# EAGLE library part XCV800_BG432 (library xilinx-xcv)
xcv800_bg432 edit this description Auto generated by make-symbol-device-package-bsdl.ulp Rev. 26 Source: xcv800_bg432.bsd
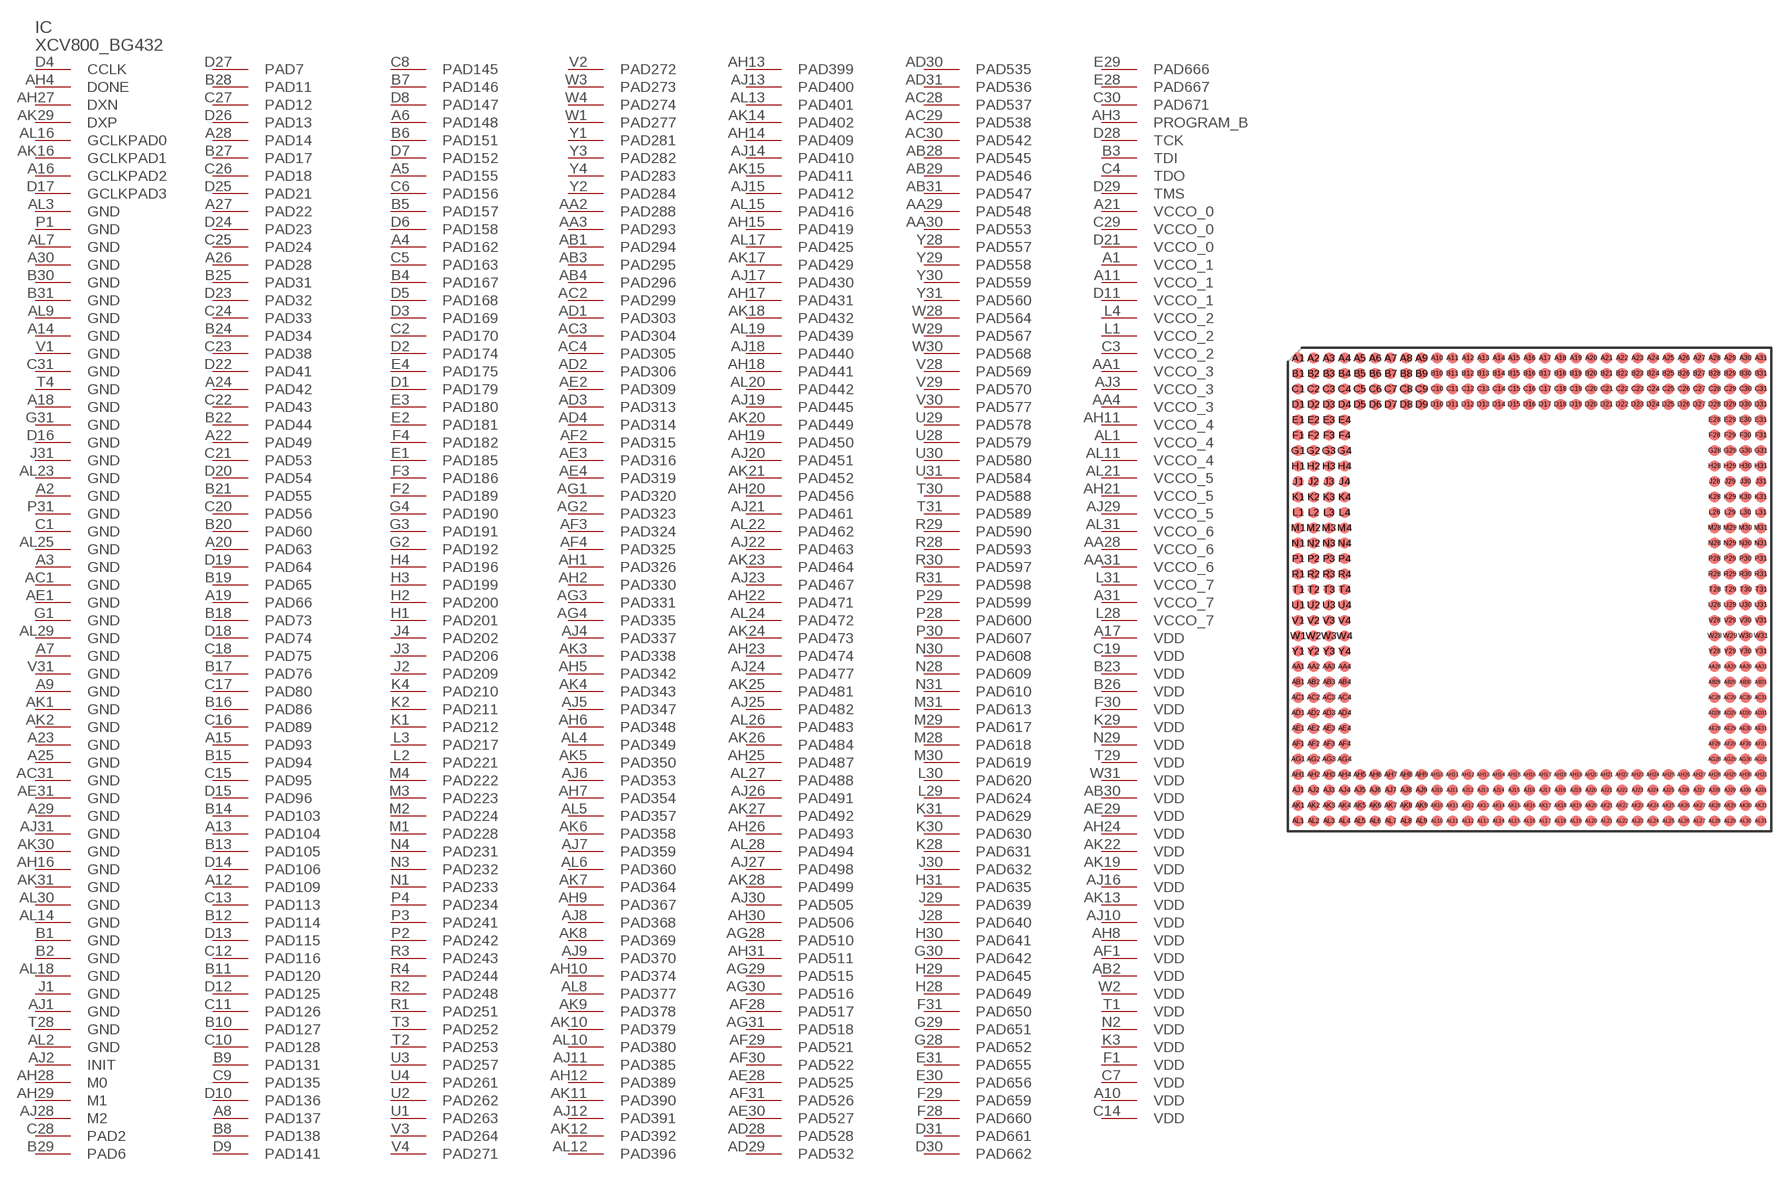
[diagram p127: symbol with the pads of BG432; footprint BG432]

Designator prefix IC

## XCV800_BG432 (OC_FARNELL: unknown; OC_NEWARK: unknown)  [BG432]
A1  VCCO_1  pwr
A2  GND  pwr
A3  GND  pwr
A4  PAD162
A5  PAD155
A6  PAD148
A7  GND  pwr
A8  PAD137
A9  GND  pwr
A10  VDD  pwr
A11  VCCO_1  pwr
A12  PAD109
A13  PAD104
A14  GND  pwr
A15  PAD93
A16  GCLKPAD2  in
A17  VDD  pwr
A18  GND  pwr
A19  PAD66
A20  PAD63
A21  VCCO_0  pwr
A22  PAD49
A23  GND  pwr
A24  PAD42
A25  GND  pwr
A26  PAD28
A27  PAD22
A28  PAD14
A29  GND  pwr
A30  GND  pwr
A31  VCCO_7  pwr
AA1  VCCO_3  pwr
AA2  PAD288
AA3  PAD293
AA4  VCCO_3  pwr
AA28  VCCO_6  pwr
AA29  PAD548
AA30  PAD553
AA31  VCCO_6  pwr
AB1  PAD294
AB2  VDD  pwr
AB3  PAD295
AB4  PAD296
AB28  PAD545
AB29  PAD546
AB30  VDD  pwr
AB31  PAD547
AC1  GND  pwr
AC2  PAD299
AC3  PAD304
AC4  PAD305
AC28  PAD537
AC29  PAD538
AC30  PAD542
AC31  GND  pwr
AD1  PAD303
AD2  PAD306
AD3  PAD313
AD4  PAD314
AD28  PAD528
AD29  PAD532
AD30  PAD535
AD31  PAD536
AE1  GND  pwr
AE2  PAD309
AE3  PAD316
AE4  PAD319
AE28  PAD525
AE29  VDD  pwr
AE30  PAD527
AE31  GND  pwr
AF1  VDD  pwr
AF2  PAD315
AF3  PAD324
AF4  PAD325
AF28  PAD517
AF29  PAD521
AF30  PAD522
AF31  PAD526
AG1  PAD320
AG2  PAD323
AG3  PAD331
AG4  PAD335
AG28  PAD510
AG29  PAD515
AG30  PAD516
AG31  PAD518
AH1  PAD326
AH2  PAD330
AH3  PROGRAM_B  in
AH4  DONE
AH5  PAD342
AH6  PAD348
AH7  PAD354
AH8  VDD  pwr
AH9  PAD367
AH10  PAD374
AH11  VCCO_4  pwr
AH12  PAD389
AH13  PAD399
AH14  PAD409
AH15  PAD419
AH16  GND  pwr
AH17  PAD431
AH18  PAD441
AH19  PAD450
AH20  PAD456
AH21  VCCO_5  pwr
AH22  PAD471
AH23  PAD474
AH24  VDD  pwr
AH25  PAD487
AH26  PAD493
AH27  DXN  pas
AH28  M0  in
AH29  M1  in
AH30  PAD506
AH31  PAD511
AJ1  GND  pwr
AJ2  INIT
AJ3  VCCO_3  pwr
AJ4  PAD337
AJ5  PAD347
AJ6  PAD353
AJ7  PAD359
AJ8  PAD368
AJ9  PAD370
AJ10  VDD  pwr
AJ11  PAD385
AJ12  PAD391
AJ13  PAD400
AJ14  PAD410
AJ15  PAD412
AJ16  VDD  pwr
AJ17  PAD430
AJ18  PAD440
AJ19  PAD445
AJ20  PAD451
AJ21  PAD461
AJ22  PAD463
AJ23  PAD467
AJ24  PAD477
AJ25  PAD482
AJ26  PAD491
AJ27  PAD498
AJ28  M2  in
AJ29  VCCO_5  pwr
AJ30  PAD505
AJ31  GND  pwr
AK1  GND  pwr
AK2  GND  pwr
AK3  PAD338
AK4  PAD343
AK5  PAD350
AK6  PAD358
AK7  PAD364
AK8  PAD369
AK9  PAD378
AK10  PAD379
AK11  PAD390
AK12  PAD392
AK13  VDD  pwr
AK14  PAD402
AK15  PAD411
AK16  GCLKPAD1  in
AK17  PAD429
AK18  PAD432
AK19  VDD  pwr
AK20  PAD449
AK21  PAD452
AK22  VDD  pwr
AK23  PAD464
AK24  PAD473
AK25  PAD481
AK26  PAD484
AK27  PAD492
AK28  PAD499
AK29  DXP  pas
AK30  GND  pwr
AK31  GND  pwr
AL1  VCCO_4  pwr
AL2  GND  pwr
AL3  GND  pwr
AL4  PAD349
AL5  PAD357
AL6  PAD360
AL7  GND  pwr
AL8  PAD377
AL9  GND  pwr
AL10  PAD380
AL11  VCCO_4  pwr
AL12  PAD396
AL13  PAD401
AL14  GND  pwr
AL15  PAD416
AL16  GCLKPAD0  in
AL17  PAD425
AL18  GND  pwr
AL19  PAD439
AL20  PAD442
AL21  VCCO_5  pwr
AL22  PAD462
AL23  GND  pwr
AL24  PAD472
AL25  GND  pwr
AL26  PAD483
AL27  PAD488
AL28  PAD494
AL29  GND  pwr
AL30  GND  pwr
AL31  VCCO_6  pwr
B1  GND  pwr
B2  GND  pwr
B3  TDI  in
B4  PAD167
B5  PAD157
B6  PAD151
B7  PAD146
B8  PAD138
B9  PAD131
B10  PAD127
B11  PAD120
B12  PAD114
B13  PAD105
B14  PAD103
B15  PAD94
B16  PAD86
B17  PAD76
B18  PAD73
B19  PAD65
B20  PAD60
B21  PAD55
B22  PAD44
B23  VDD  pwr
B24  PAD34
B25  PAD31
B26  VDD  pwr
B27  PAD17
B28  PAD11
B29  PAD6
B30  GND  pwr
B31  GND  pwr
C1  GND  pwr
C2  PAD170
C3  VCCO_2  pwr
C4  TDO  out
C5  PAD163
C6  PAD156
C7  VDD  pwr
C8  PAD145
C9  PAD135
C10  PAD128
C11  PAD126
C12  PAD116
C13  PAD113
C14  VDD  pwr
C15  PAD95
C16  PAD89
C17  PAD80
C18  PAD75
C19  VDD  pwr
C20  PAD56
C21  PAD53
C22  PAD43
C23  PAD38
C24  PAD33
C25  PAD24
C26  PAD18
C27  PAD12
C28  PAD2
C29  VCCO_0  pwr
C30  PAD671
C31  GND  pwr
D1  PAD179
D2  PAD174
D3  PAD169
D4  CCLK
D5  PAD168
D6  PAD158
D7  PAD152
D8  PAD147
D9  PAD141
D10  PAD136
D11  VCCO_1  pwr
D12  PAD125
D13  PAD115
D14  PAD106
D15  PAD96
D16  GND  pwr
D17  GCLKPAD3  in
D18  PAD74
D19  PAD64
D20  PAD54
D21  VCCO_0  pwr
D22  PAD41
D23  PAD32
D24  PAD23
D25  PAD21
D26  PAD13
D27  PAD7
D28  TCK  in
D29  TMS  in
D30  PAD662
D31  PAD661
E1  PAD185
E2  PAD181
E3  PAD180
E4  PAD175
E28  PAD667
E29  PAD666
E30  PAD656
E31  PAD655
F1  VDD  pwr
F2  PAD189
F3  PAD186
F4  PAD182
F28  PAD660
F29  PAD659
F30  VDD  pwr
F31  PAD650
G1  GND  pwr
G2  PAD192
G3  PAD191
G4  PAD190
G28  PAD652
G29  PAD651
G30  PAD642
G31  GND  pwr
H1  PAD201
H2  PAD200
H3  PAD199
H4  PAD196
H28  PAD649
H29  PAD645
H30  PAD641
H31  PAD635
J1  GND  pwr
J2  PAD209
J3  PAD206
J4  PAD202
J28  PAD640
J29  PAD639
J30  PAD632
J31  GND  pwr
K1  PAD212
K2  PAD211
K3  VDD  pwr
K4  PAD210
K28  PAD631
K29  VDD  pwr
K30  PAD630
K31  PAD629
L1  VCCO_2  pwr
L2  PAD221
L3  PAD217
L4  VCCO_2  pwr
L28  VCCO_7  pwr
L29  PAD624
L30  PAD620
L31  VCCO_7  pwr
M1  PAD228
M2  PAD224
M3  PAD223
M4  PAD222
M28  PAD618
M29  PAD617
M30  PAD619
M31  PAD613
N1  PAD233
N2  VDD  pwr
N3  PAD232
N4  PAD231
N28  PAD609
N29  VDD  pwr
N30  PAD608
N31  PAD610
P1  GND  pwr
P2  PAD242
P3  PAD241
P4  PAD234
P28  PAD600
P29  PAD599
P30  PAD607
P31  GND  pwr
R1  PAD251
R2  PAD248
R3  PAD243
R4  PAD244
R28  PAD593
R29  PAD590
R30  PAD597
R31  PAD598
T1  VDD  pwr
T2  PAD253
T3  PAD252
T4  GND  pwr
T28  GND  pwr
T29  VDD  pwr
T30  PAD588
T31  PAD589
U1  PAD263
U2  PAD262
U3  PAD257
U4  PAD261
U28  PAD579
U29  PAD578
U30  PAD580
U31  PAD584
V1  GND  pwr
V2  PAD272
V3  PAD264
V4  PAD271
V28  PAD569
V29  PAD570
V30  PAD577
V31  GND  pwr
W1  PAD277
W2  VDD  pwr
W3  PAD273
W4  PAD274
W28  PAD564
W29  PAD567
W30  PAD568
W31  VDD  pwr
Y1  PAD281
Y2  PAD284
Y3  PAD282
Y4  PAD283
Y28  PAD557
Y29  PAD558
Y30  PAD559
Y31  PAD560

## Footprint BG432 (pad centres in mm)
xcv300_bg432 edit this description Auto generated by make-symbol-device-package-bsdl.ulp Rev. 26 Source: xcv300_bg432.bsd
smd 0.9 x 0.9: A1 -19.05,19.05; A2 -17.78,19.05; A3 -16.51,19.05; A4 -15.24,19.05; A5 -13.97,19.05; A6 -12.7,19.05; A7 -11.43,19.05; A8 -10.16,19.05; A9 -8.89,19.05; A10 -7.62,19.05; A11 -6.35,19.05; A12 -5.08,19.05; A13 -3.81,19.05; A14 -2.54,19.05; A15 -1.27,19.05; A16 0,19.05; A17 1.27,19.05; A18 2.54,19.05; A19 3.81,19.05; A20 5.08,19.05; A21 6.35,19.05; A22 7.62,19.05; A23 8.89,19.05; A24 10.16,19.05; A25 11.43,19.05; A26 12.7,19.05; A27 13.97,19.05; A28 15.24,19.05; A29 16.51,19.05; A30 17.78,19.05; A31 19.05,19.05; AA1 -19.05,-6.35; AA2 -17.78,-6.35; AA3 -16.51,-6.35; AA4 -15.24,-6.35; AA28 15.24,-6.35; AA29 16.51,-6.35; AA30 17.78,-6.35; AA31 19.05,-6.35; AB1 -19.05,-7.62; AB2 -17.78,-7.62; AB3 -16.51,-7.62; AB4 -15.24,-7.62; AB28 15.24,-7.62; AB29 16.51,-7.62; AB30 17.78,-7.62; AB31 19.05,-7.62; AC1 -19.05,-8.89; AC2 -17.78,-8.89; AC3 -16.51,-8.89; AC4 -15.24,-8.89; AC28 15.24,-8.89; AC29 16.51,-8.89; AC30 17.78,-8.89; AC31 19.05,-8.89; AD1 -19.05,-10.16; AD2 -17.78,-10.16; AD3 -16.51,-10.16; AD4 -15.24,-10.16; AD28 15.24,-10.16; AD29 16.51,-10.16; AD30 17.78,-10.16; AD31 19.05,-10.16; AE1 -19.05,-11.43; AE2 -17.78,-11.43; AE3 -16.51,-11.43; AE4 -15.24,-11.43; AE28 15.24,-11.43; AE29 16.51,-11.43; AE30 17.78,-11.43; AE31 19.05,-11.43; AF1 -19.05,-12.7; AF2 -17.78,-12.7; AF3 -16.51,-12.7; AF4 -15.24,-12.7; AF28 15.24,-12.7; AF29 16.51,-12.7; AF30 17.78,-12.7; AF31 19.05,-12.7; AG1 -19.05,-13.97; AG2 -17.78,-13.97; AG3 -16.51,-13.97; AG4 -15.24,-13.97; AG28 15.24,-13.97; AG29 16.51,-13.97; AG30 17.78,-13.97; AG31 19.05,-13.97; AH1 -19.05,-15.24; AH2 -17.78,-15.24; AH3 -16.51,-15.24; AH4 -15.24,-15.24; AH5 -13.97,-15.24; AH6 -12.7,-15.24; AH7 -11.43,-15.24; AH8 -10.16,-15.24; AH9 -8.89,-15.24; AH10 -7.62,-15.24; AH11 -6.35,-15.24; AH12 -5.08,-15.24; AH13 -3.81,-15.24; AH14 -2.54,-15.24; AH15 -1.27,-15.24; AH16 0,-15.24; AH17 1.27,-15.24; AH18 2.54,-15.24; AH19 3.81,-15.24; AH20 5.08,-15.24; AH21 6.35,-15.24; AH22 7.62,-15.24; AH23 8.89,-15.24; AH24 10.16,-15.24; AH25 11.43,-15.24; AH26 12.7,-15.24; AH27 13.97,-15.24; AH28 15.24,-15.24; AH29 16.51,-15.24; AH30 17.78,-15.24; AH31 19.05,-15.24; AJ1 -19.05,-16.51; AJ2 -17.78,-16.51; AJ3 -16.51,-16.51; AJ4 -15.24,-16.51; AJ5 -13.97,-16.51; AJ6 -12.7,-16.51; AJ7 -11.43,-16.51; AJ8 -10.16,-16.51; AJ9 -8.89,-16.51; AJ10 -7.62,-16.51; AJ11 -6.35,-16.51; AJ12 -5.08,-16.51; AJ13 -3.81,-16.51; AJ14 -2.54,-16.51; AJ15 -1.27,-16.51; AJ16 0,-16.51; AJ17 1.27,-16.51; AJ18 2.54,-16.51; AJ19 3.81,-16.51; AJ20 5.08,-16.51; AJ21 6.35,-16.51; AJ22 7.62,-16.51; AJ23 8.89,-16.51; AJ24 10.16,-16.51; AJ25 11.43,-16.51; AJ26 12.7,-16.51; AJ27 13.97,-16.51; AJ28 15.24,-16.51; AJ29 16.51,-16.51; AJ30 17.78,-16.51; AJ31 19.05,-16.51; AK1 -19.05,-17.78; AK2 -17.78,-17.78; AK3 -16.51,-17.78; AK4 -15.24,-17.78; AK5 -13.97,-17.78; AK6 -12.7,-17.78; AK7 -11.43,-17.78; AK8 -10.16,-17.78; AK9 -8.89,-17.78; AK10 -7.62,-17.78; AK11 -6.35,-17.78; AK12 -5.08,-17.78; AK13 -3.81,-17.78; AK14 -2.54,-17.78; AK15 -1.27,-17.78; AK16 0,-17.78; AK17 1.27,-17.78; AK18 2.54,-17.78; AK19 3.81,-17.78; AK20 5.08,-17.78; AK21 6.35,-17.78; AK22 7.62,-17.78; AK23 8.89,-17.78; AK24 10.16,-17.78; AK25 11.43,-17.78; AK26 12.7,-17.78; AK27 13.97,-17.78; AK28 15.24,-17.78; AK29 16.51,-17.78; AK30 17.78,-17.78; AK31 19.05,-17.78; AL1 -19.05,-19.05; AL2 -17.78,-19.05; AL3 -16.51,-19.05; AL4 -15.24,-19.05; AL5 -13.97,-19.05; AL6 -12.7,-19.05; AL7 -11.43,-19.05; AL8 -10.16,-19.05; AL9 -8.89,-19.05; AL10 -7.62,-19.05; AL11 -6.35,-19.05; AL12 -5.08,-19.05; AL13 -3.81,-19.05; AL14 -2.54,-19.05; AL15 -1.27,-19.05; AL16 0,-19.05; AL17 1.27,-19.05; AL18 2.54,-19.05; AL19 3.81,-19.05; AL20 5.08,-19.05; AL21 6.35,-19.05; AL22 7.62,-19.05; AL23 8.89,-19.05; AL24 10.16,-19.05; AL25 11.43,-19.05; AL26 12.7,-19.05; AL27 13.97,-19.05; AL28 15.24,-19.05; AL29 16.51,-19.05; AL30 17.78,-19.05; AL31 19.05,-19.05; B1 -19.05,17.78; B2 -17.78,17.78; B3 -16.51,17.78; B4 -15.24,17.78; B5 -13.97,17.78; B6 -12.7,17.78; B7 -11.43,17.78; B8 -10.16,17.78; B9 -8.89,17.78; B10 -7.62,17.78; B11 -6.35,17.78; B12 -5.08,17.78; B13 -3.81,17.78; B14 -2.54,17.78; B15 -1.27,17.78; B16 0,17.78; B17 1.27,17.78; B18 2.54,17.78; B19 3.81,17.78; B20 5.08,17.78; B21 6.35,17.78; B22 7.62,17.78; B23 8.89,17.78; B24 10.16,17.78; B25 11.43,17.78; B26 12.7,17.78; B27 13.97,17.78; B28 15.24,17.78; B29 16.51,17.78; B30 17.78,17.78; B31 19.05,17.78; C1 -19.05,16.51; C2 -17.78,16.51; C3 -16.51,16.51; C4 -15.24,16.51; C5 -13.97,16.51; C6 -12.7,16.51; C7 -11.43,16.51; C8 -10.16,16.51; C9 -8.89,16.51; C10 -7.62,16.51; C11 -6.35,16.51; C12 -5.08,16.51; C13 -3.81,16.51; C14 -2.54,16.51; C15 -1.27,16.51; C16 0,16.51; C17 1.27,16.51; C18 2.54,16.51; C19 3.81,16.51; C20 5.08,16.51; C21 6.35,16.51; C22 7.62,16.51; C23 8.89,16.51; C24 10.16,16.51; C25 11.43,16.51; C26 12.7,16.51; C27 13.97,16.51; C28 15.24,16.51; C29 16.51,16.51; C30 17.78,16.51; C31 19.05,16.51; D1 -19.05,15.24; D2 -17.78,15.24; D3 -16.51,15.24; D4 -15.24,15.24; D5 -13.97,15.24; D6 -12.7,15.24; D7 -11.43,15.24; D8 -10.16,15.24; D9 -8.89,15.24; D10 -7.62,15.24; D11 -6.35,15.24; D12 -5.08,15.24; D13 -3.81,15.24; D14 -2.54,15.24; D15 -1.27,15.24; D16 0,15.24; D17 1.27,15.24; D18 2.54,15.24; D19 3.81,15.24; D20 5.08,15.24; D21 6.35,15.24; D22 7.62,15.24; D23 8.89,15.24; D24 10.16,15.24; D25 11.43,15.24; D26 12.7,15.24; D27 13.97,15.24; D28 15.24,15.24; D29 16.51,15.24; D30 17.78,15.24; D31 19.05,15.24; E1 -19.05,13.97; E2 -17.78,13.97; E3 -16.51,13.97; E4 -15.24,13.97; E28 15.24,13.97; E29 16.51,13.97; E30 17.78,13.97; E31 19.05,13.97; F1 -19.05,12.7; F2 -17.78,12.7; F3 -16.51,12.7; F4 -15.24,12.7; F28 15.24,12.7; F29 16.51,12.7; F30 17.78,12.7; F31 19.05,12.7; G1 -19.05,11.43; G2 -17.78,11.43; G3 -16.51,11.43; G4 -15.24,11.43; G28 15.24,11.43; G29 16.51,11.43; G30 17.78,11.43; G31 19.05,11.43; H1 -19.05,10.16; H2 -17.78,10.16; H3 -16.51,10.16; H4 -15.24,10.16; H28 15.24,10.16; H29 16.51,10.16; H30 17.78,10.16; H31 19.05,10.16; J1 -19.05,8.89; J2 -17.78,8.89; J3 -16.51,8.89; J4 -15.24,8.89; J28 15.24,8.89; J29 16.51,8.89; J30 17.78,8.89; J31 19.05,8.89; K1 -19.05,7.62; K2 -17.78,7.62; K3 -16.51,7.62; K4 -15.24,7.62; K28 15.24,7.62; K29 16.51,7.62; K30 17.78,7.62; K31 19.05,7.62; L1 -19.05,6.35; L2 -17.78,6.35; L3 -16.51,6.35; L4 -15.24,6.35; L28 15.24,6.35; L29 16.51,6.35; L30 17.78,6.35; L31 19.05,6.35; M1 -19.05,5.08; M2 -17.78,5.08; M3 -16.51,5.08; M4 -15.24,5.08; M28 15.24,5.08; M29 16.51,5.08; M30 17.78,5.08; M31 19.05,5.08; N1 -19.05,3.81; N2 -17.78,3.81; N3 -16.51,3.81; N4 -15.24,3.81; N28 15.24,3.81; N29 16.51,3.81; N30 17.78,3.81; N31 19.05,3.81; P1 -19.05,2.54; P2 -17.78,2.54; P3 -16.51,2.54; P4 -15.24,2.54; P28 15.24,2.54; P29 16.51,2.54; P30 17.78,2.54; P31 19.05,2.54; R1 -19.05,1.27; R2 -17.78,1.27; R3 -16.51,1.27; R4 -15.24,1.27; R28 15.24,1.27; R29 16.51,1.27; R30 17.78,1.27; R31 19.05,1.27; T1 -19.05,0; T2 -17.78,0; T3 -16.51,0; T4 -15.24,0; T28 15.24,0; T29 16.51,0; T30 17.78,0; T31 19.05,0; U1 -19.05,-1.27; U2 -17.78,-1.27; U3 -16.51,-1.27; U4 -15.24,-1.27; U28 15.24,-1.27; U29 16.51,-1.27; U30 17.78,-1.27; U31 19.05,-1.27; V1 -19.05,-2.54; V2 -17.78,-2.54; V3 -16.51,-2.54; V4 -15.24,-2.54; V28 15.24,-2.54; V29 16.51,-2.54; V30 17.78,-2.54; V31 19.05,-2.54; W1 -19.05,-3.81; W2 -17.78,-3.81; W3 -16.51,-3.81; W4 -15.24,-3.81; W28 15.24,-3.81; W29 16.51,-3.81; W30 17.78,-3.81; W31 19.05,-3.81; Y1 -19.05,-5.08; Y2 -17.78,-5.08; Y3 -16.51,-5.08; Y4 -15.24,-5.08; Y28 15.24,-5.08; Y29 16.51,-5.08; Y30 17.78,-5.08; Y31 19.05,-5.08